# Altium footprint library AHT11.PcbLib: 1 footprints
Each footprint in its own frame and in the unit in brackets; x right, y up, seen from the top. Pads: shape width x height; smd on the part's side, far side on the other; paste and mask are expansions set on the pad; w line width, h text height; cw(c..) or ccw(c..) is an arc to the next point about the centre after c.
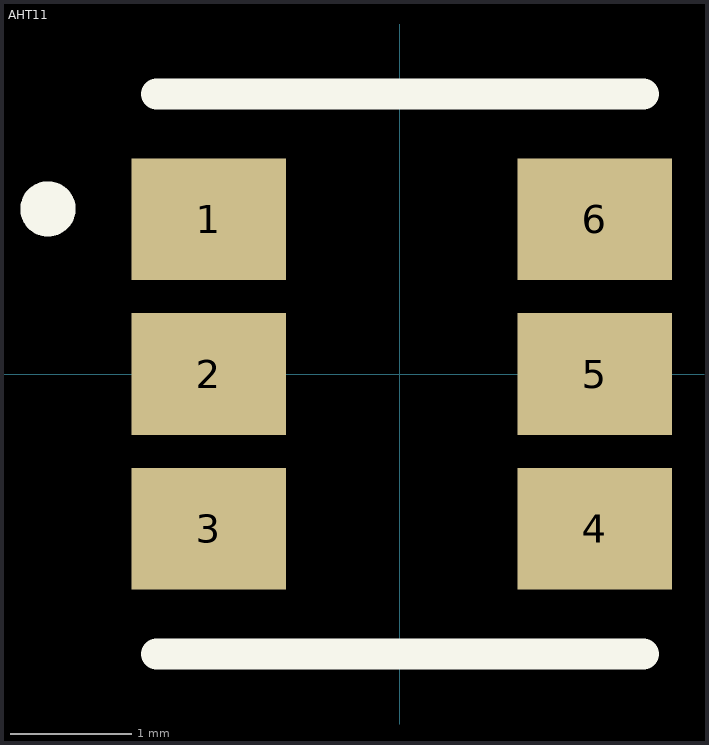
[diagram p0: the footprint, top view; thin cyan lines are the x and y axes]

## AHT11 [mm] "Temperature and humidity sensor package footprint"
height 2
pads (6):
  rect 1.27x1 smd: 1(-1.57,1.27) 2(-1.57,0) 3(-1.57,-1.27) 4(1.6,-1.27) 5(1.6,0) 6(1.6,1.27)
Top Overlay:
  lines w0.254: -2.8,1.311 cw(c-2.889,1.355) -2.793,1.327 ; -2,-2.3 2,-2.3 ; -2,2.3 2,2.3
3D body: height 2.1, standoff 0.1, extent -2,-2 2,2